# Altium schematic symbol library LM2596S-5.0.SchLib: 1 symbol
Pins are listed as number, name and electrical type; pins without a type are passive.

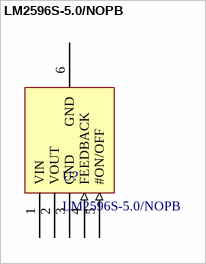
[diagram p0: symbol LM2596S-5.0/NOPB]

## LM2596S-5.0/NOPB
designator U?
LM2596S-5.0/NOPB 5V Buck converter; Manufacturer: Texas Instruments; Reference: LM2596S-5.0/NOPB
footprint DPAK170P1435X457-6N (D2-PAK, 6-Pads, Body 7,55x8,54mm (max), IPC Medium Density)
pins: 1 VIN (power), 2 VOUT (power), 3 GND (power), 4 FEEDBACK (in), 5 #ON/OFF (in), 6 GND (power)